# EAGLE library part TS12A44514 (library daqbeagle_shield)
Quad bilateral ANALOG SWITCH
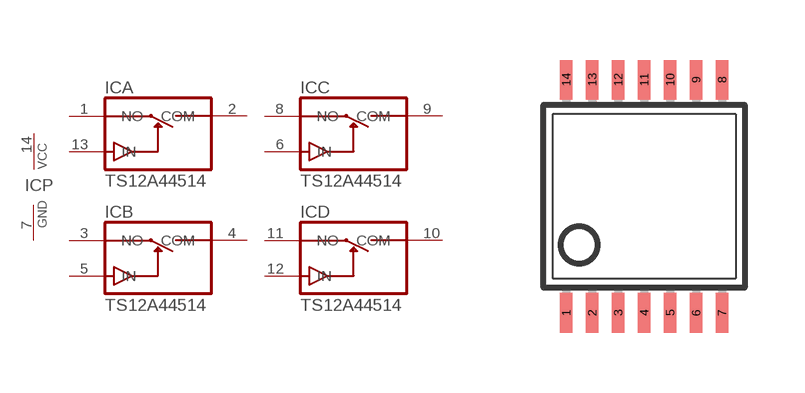
[diagram p0: symbol with the pads of TSSOP14; footprint TSSOP14]

Designator prefix IC; gates A=TS12A44514 B=TS12A44514 C=TS12A44514 D=TS12A44514 P=PWRN

## TS12A44514PW  [TSSOP14]
1  A:NO  hiz
2  A:COM  hiz
3  B:NO  hiz
4  B:COM  hiz
5  B:IN  in
6  C:IN  in
7  P:GND  pwr
8  C:NO  hiz
9  C:COM  hiz
10  D:COM  hiz
11  D:NO  hiz
12  D:IN  in
13  A:IN  in
14  P:VCC  pwr

## Footprint TSSOP14 (pad centres in mm)
Thin Shrink Small Outline Plastic 14 MAX3223-MAX3243.pdf
smd 0.305 x 0.991: 1 -1.95,-2.918; 2 -1.3,-2.918; 3 -0.65,-2.918; 4 0,-2.918; 5 0.65,-2.918; 6 1.3,-2.918; 7 1.95,-2.918; 8 1.95,2.918; 9 1.3,2.918; 10 0.65,2.918; 11 0,2.918; 12 -0.65,2.918; 13 -1.3,2.918; 14 -1.95,2.918